# EAGLE library part MICROUSB (library utesla)
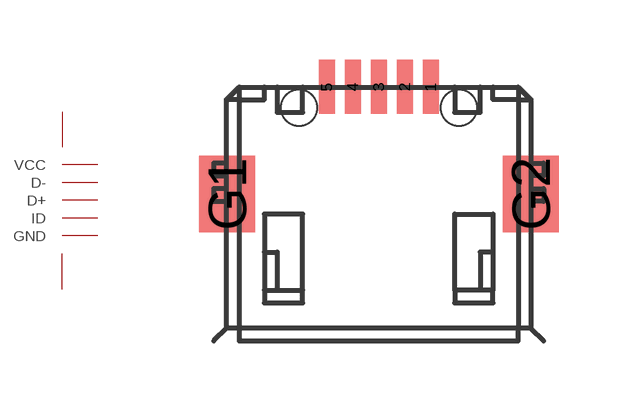
[diagram p0: symbol with the pads of MICROUSB; footprint MICROUSB]

Designator prefix -

## MICROUSB  [MICROUSB]
1  GND
2  ID
3  D+
4  D-
5  VCC
G1  G1
G2  G2

## Footprint MICROUSB (pad centres in mm)
smd 0.4 x 1.35: 1 1.3,0; 2 0.65,0; 3 0,0; 4 -0.65,0; 5 -1.3,0
smd 1.4 x 1.9: G1 -3.8,-2.675; G2 3.8,-2.675
hole 0.9 at -2,-0.525
hole 0.9 at 2,-0.525